# Altium footprint library 4x2(5mm).PcbLib: 1 footprints
Each footprint in its own frame and in the unit in brackets; x right, y up, seen from the top. Pads: shape width x height; smd on the part's side, far side on the other; paste and mask are expansions set on the pad; w line width, h text height; cw(c..) or ccw(c..) is an arc to the next point about the centre after c.
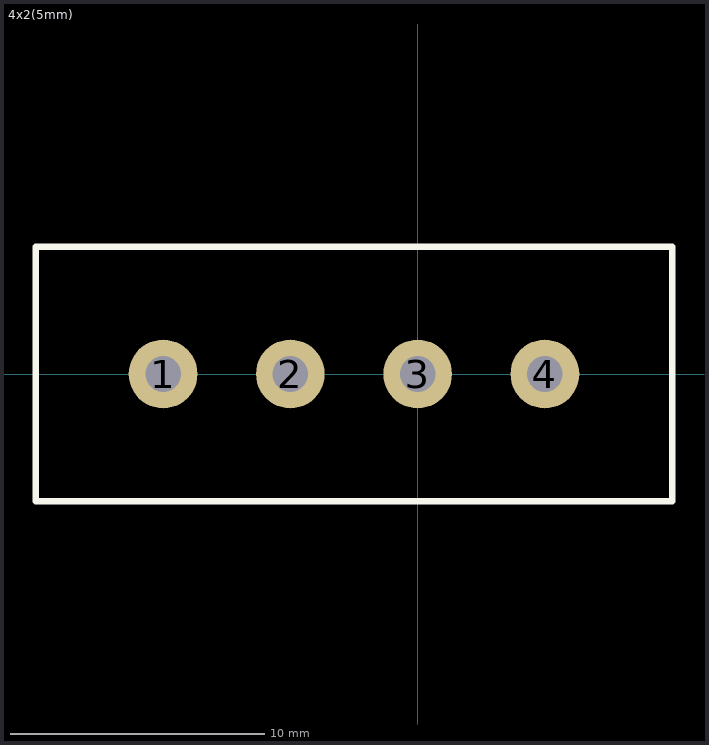
[diagram p0: the footprint, top view; thin cyan lines are the x and y axes]

## 4x2(5mm) [mm]
pads (4):
  round 2.7 hole 1.4: 1(-10,0) 2(-5,0) 3(0,0) 4(5,0)
Top Overlay:
  lines w0.254: -15,-5 10,-5 10,5 -15,5 -15,-5